# Altium schematic symbol library RES,150R,1%,0.1W,0402.Schlib: 1 symbol
Pins are listed as number, name and electrical type; pins without a type are passive.

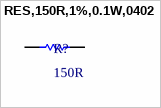
[diagram p0: symbol RES,150R,1%,0.1W,0402]

## RES,150R,1%,0.1W,0402
designator R?, comment 150R
150 Ohms ±1% 0.063W, 1/16W Chip Resistor 0402 (1005 Metric) Automotive AEC-Q200, Moisture Resistant Thick Film
pins: 1, 2